# EAGLE library part 1-5499923-2 (library Tyco_By_element14_Batch_1)
AMP-LATCH Pin and Pinless Headers
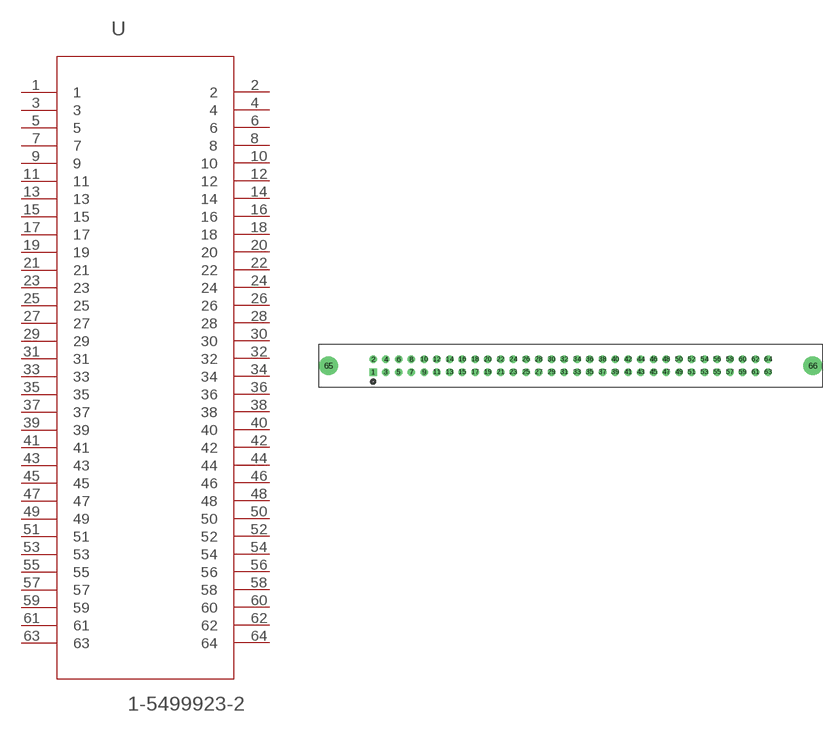
[diagram p33: symbol with the pads of TYCO_1-5499923-2; footprint TYCO_1-5499923-2]

Designator prefix U

## 1-5499923-2 (MPN: 1-5499923-2; OC_FARNELL: 1845893; OC_NEWARK: 17R0742; PACKAGE: Header - Pin; SUPPLIER: Tyco)  [TYCO_1-5499923-2]
1  1  pas
2  2  pas
3  3  pas
4  4  pas
5  5  pas
6  6  pas
7  7  pas
8  8  pas
9  9  pas
10  10  pas
11  11  pas
12  12  pas
13  13  pas
14  14  pas
15  15  pas
16  16  pas
17  17  pas
18  18  pas
19  19  pas
20  20  pas
21  21  pas
22  22  pas
23  23  pas
24  24  pas
25  25  pas
26  26  pas
27  27  pas
28  28  pas
29  29  pas
30  30  pas
31  31  pas
32  32  pas
33  33  pas
34  34  pas
35  35  pas
36  36  pas
37  37  pas
38  38  pas
39  39  pas
40  40  pas
41  41  pas
42  42  pas
43  43  pas
44  44  pas
45  45  pas
46  46  pas
47  47  pas
48  48  pas
49  49  pas
50  50  pas
51  51  pas
52  52  pas
53  53  pas
54  54  pas
55  55  pas
56  56  pas
57  57  pas
58  58  pas
59  59  pas
60  60  pas
61  61  pas
62  62  pas
63  63  pas
64  64  pas

## Footprint TYCO_1-5499923-2 (pad centres in mm)
drill 0.965 square: 1 -78.74,-2.54
drill 0.965: 2 -78.74,0; 3 -76.2,-2.54; 4 -76.2,0; 5 -73.66,-2.54; 6 -73.66,0; 7 -71.12,-2.54; 8 -71.12,0; 9 -68.58,-2.54; 10 -68.58,0; 11 -66.04,-2.54; 12 -66.04,0; 13 -63.5,-2.54; 14 -63.5,0; 15 -60.96,-2.54; 16 -60.96,0; 17 -58.42,-2.54; 18 -58.42,0; 19 -55.88,-2.54; 20 -55.88,0; 21 -53.34,-2.54; 22 -53.34,0; 23 -50.8,-2.54; 24 -50.8,0; 25 -48.26,-2.54; 26 -48.26,0; 27 -45.72,-2.54; 28 -45.72,0; 29 -43.18,-2.54; 30 -43.18,0; 31 -40.64,-2.54; 32 -40.64,0; 33 -38.1,-2.54; 34 -38.1,0; 35 -35.56,-2.54; 36 -35.56,0; 37 -33.02,-2.54; 38 -33.02,0; 39 -30.48,-2.54; 40 -30.48,0; 41 -27.94,-2.54; 42 -27.94,0; 43 -25.4,-2.54; 44 -25.4,0; 45 -22.86,-2.54; 46 -22.86,0; 47 -20.32,-2.54; 48 -20.32,0; 49 -17.78,-2.54; 50 -17.78,0; 51 -15.24,-2.54; 52 -15.24,0; 53 -12.7,-2.54; 54 -12.7,0; 55 -10.16,-2.54; 56 -10.16,0; 57 -7.62,-2.54; 58 -7.62,0; 59 -5.08,-2.54; 60 -5.08,0; 61 -2.54,-2.54; 62 -2.54,0; 63 0,-2.54; 64 0,0
drill 2.692: 65 -87.63,-1.27; 66 8.89,-1.27